# Altium footprint library MyLibrary.PcbLib: 365 footprints (part 14 of 23)
Each footprint in its own frame and in the unit in brackets; x right, y up, seen from the top. Pads: shape width x height; smd on the part's side, far side on the other; paste and mask are expansions set on the pad; w line width, h text height; cw(c..) or ccw(c..) is an arc to the next point about the centre after c.
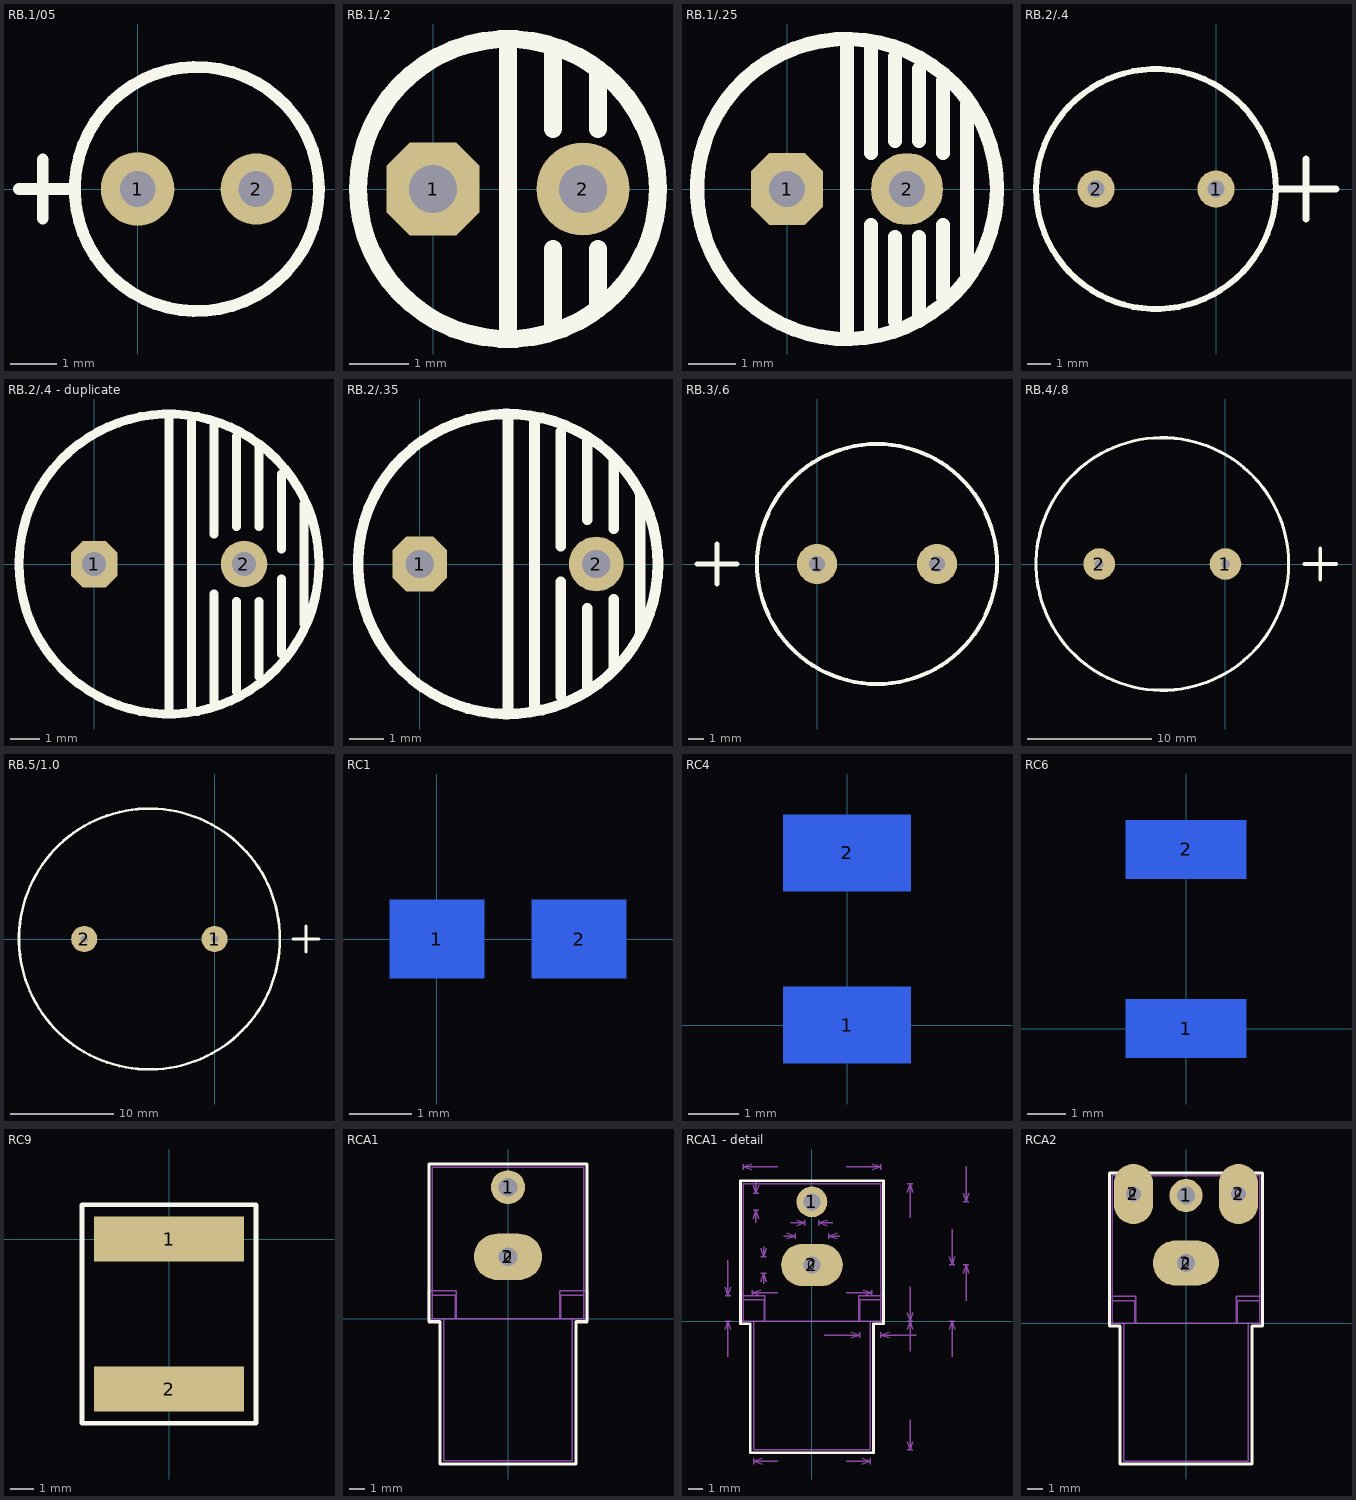
[diagram p13: the footprints below, top view; thin cyan lines are the x and y axes]

## RB.1/05 [mil]
pads (2):
  round 62 hole 30: 1(0,0)
  round 60 hole 30: 2(100,0)
Top Overlay:
  circle w10: c50,0 r102.96
  lines w10: -100,0 -55,0 ; -80,-25 -80,25

## RB.1/.2 [mil]
pads (2):
  oct 62x62 hole 32: 1(0,0)
  round 62 hole 32: 2(100,0)
Top Overlay:
  circle w12: c50,0 r100
  lines w12: 50,-100 50,100 ; 80,-90 80,-40 ; 80,40 80,90 ; 110,-80 110,-40 ; 110,40 110,80

## RB.1/.25 [mil]
pads (2):
  oct 60x60 hole 30: 1(0,0)
  round 60 hole 30: 2(100,0)
Top Overlay:
  circle w12: c50,0 r125
  lines w12: 50,-120 50,120 ; 70,-120 70,-30 ; 70,30 70,120 ; 90,-110 90,-40 ; 90,40 90,110 ; 110,-110 110,-40 ; 110,40 110,100 ; 130,-90 130,-30 ; 130,30 130,90 ; 150,-70 150,70

## RB.2/.4 [mil]
pads (2):
  round 62 hole 28: 1(0,0) 2(-200,0)
Top Overlay:
  circle w10: c-100,0 r200
  lines w12: 100,0 200,0 ; 150,-50 150,50

## RB.2/.4 - duplicate [mil]
pads (2):
  oct 62x62 hole 32: 1(0,0)
  round 62 hole 32: 2(200,0)
Top Overlay:
  circle w12: c100,0 r200
  lines w12: 100,-200 100,200 ; 130,-190 130,190 ; 160,-190 160,-40 ; 160,40 160,190 ; 190,-170 190,-50 ; 190,50 190,170 ; 220,-150 220,-50 ; 220,50 220,160 ; 250,-120 250,-20 ; 250,20 250,120 ; 280,-80 280,80

## RB.2/.35 [mil]
pads (2):
  oct 62x62 hole 32: 1(0,0)
  round 62 hole 32: 2(200,0)
Top Overlay:
  circle w12: c100,0 r170
  lines w12: 100,-170 100,170 ; 130,-160 130,160 ; 160,-150 160,-20 ; 160,20 160,150 ; 190,-140 190,-50 ; 190,50 190,140 ; 220,-120 220,-40 ; 220,40 220,120 ; 250,-80 250,80

## RB.3/.6 [mil]
pads (2):
  round 100 hole 40: 1(0,0) 2(300,0)
Top Overlay:
  circle w10: c150,0 r300
  lines w12: -300,0 -200,0 ; -250,-50 -250,50

## RB.4/.8 [mil]
pads (2):
  round 100 hole 28: 1(0,0) 2(-400,0)
Top Overlay:
  circle w10: c-200,0 r400
  lines w12: 250,0 350,0 ; 300,-50 300,50

## RB.5/1.0 [mil]
pads (2):
  round 100 hole 28: 1(0,0) 2(-500,0)
Top Overlay:
  circle w10: c-250,0 r500
  lines w12: 300,0 400,0 ; 350,-50 350,50

## RC1 [mil]
pads (2):
  rect 60x50 smd far side: 1(0,0) 2(90,0)
Bottom Overlay:
  lines w8: -50,-45 -50,45 140,45 140,-45 -50,-45

## RC4 [mil]
pads (2):
  rect 100x60 smd far side: 1(0,0) 2(0,135)
Bottom Overlay:
  lines w8: -70,-50 -70,185 70,185 70,-50 -70,-50

## RC6 [mil]
pads (2):
  rect 125x60 smd far side: 1(0,0) 2(0,185)
Bottom Overlay:
  lines w8: -82,-50 -82,235 82,235 82,-50 -82,-50

## RC9 [mil]
pads (2):
  rect 250x75 smd: 1(0,0) 2(0,-250)
Top Overlay:
  lines w8: -145,-307 -145,57 145,57 145,-307 -145,-307

## RCA1 [mm]
pads (3):
  rect 2.4x1.2 on Mech2: 0(0,4)
  round 2.2 hole 1.2: 1(0,8.5)
  oval 4.4x3 hole 1.2: 2(0,4)
Top Overlay:
  lines w0.2: -5.1,-0.2 -4.4,-0.2 -4.4,-9.4 4.4,-9.4 4.4,-0.2 5.1,-0.2 5.1,10 -5.1,10 -5.1,-0.2
Mechanical 1:
  lines w0.1: -4.9,1.5 -3.4,1.5 -3.4,0 ; -4.15,0 -4.15,-9.2 4.15,-9.2 4.15,0 ; 3.4,0 3.4,1.5 4.9,1.5 ; -4.9,0 4.9,0 4.9,9.8 -4.9,9.8 -4.9,0 ; -1.2,3.4 1.2,3.4 1.2,4.6 -1.2,4.6 -1.2,3.4 ; -0.5,7.9 -0.5,9.1 0.5,9.1 0.5,7.9 -0.5,7.9
Mechanical 2:
  lines w0.1: -5.15,0 -5.15,1.8 -3.35,1.8 -3.35,0 -5.15,0 ; 3.35,0 3.35,1.8 5.15,1.8 5.15,0 3.35,0

## RCA1 - detail [mm]
pads (3):
  rect 2.4x1.2 on Mech2: 0(0,4)
  round 2.2 hole 1.2: 1(0,8.5)
  oval 4.4x3 hole 1.2: 2(0,4)
Top Overlay:
  lines w0.2: -5.1,-0.2 -5.1,10 5.1,10 5.1,-0.2 4.4,-0.2 4.4,-9.4 -4.4,-9.4 -4.4,-0.2 -5.1,-0.2
Mechanical 1:
  lines w0.1: -6.2,-0.6 -6,0 ; -6.2,0 -5.8,0 ; -6.2,1.8 -5.8,1.8 ; -6.2,2.4 -6,1.8 ; -6,-2.54 -6,0 ; -6,4.34 -6,1.8 ; -5.8,-0.6 -6,0 ; -5.8,2.4 -6,1.8 ; -4.9,1.5 -3.4,1.5 -3.4,0 ; -4.9,10.8 -4.9,11.2 ; -4.3,10.8 -4.9,11 ; -4.3,11.2 -4.9,11 ; -4.25,1.8 -4.25,2.2 ; -4.2,7.3 -4,7.9 ; -4.2,7.9 -3.8,7.9 ; -4.2,9.1 -3.8,9.1 ; -4.2,9.7 -4,9.1 ; -4.15,-10.2 -4.15,-9.8 ; -4.15,0 -4.15,-9.2 4.15,-9.2 4.15,0 ; -4,7 -4,7.9 ; -4,10 -4,9.1 ; -3.8,7.3 -4,7.9 ; -3.8,9.7 -4,9.1 ; -3.65,1.8 -4.25,2 ; -3.65,2.2 -4.25,2 ; -3.65,2.8 -3.45,3.4 ; -3.65,3.4 -3.25,3.4 ; -3.65,4.6 -3.25,4.6 ; -3.65,5.2 -3.45,4.6 ; -3.55,-10.2 -4.15,-10 ; -3.55,-9.8 -4.15,-10 ; -3.45,2.65 -3.45,3.4 ; -3.45,5.3 -3.45,4.6 ; -3.25,2.8 -3.45,3.4 ; -3.25,5.2 -3.45,4.6 ; -2.453,-10 -4.15,-10 ; -2.453,2 -4.25,2 ; -2.453,11 -4.9,11 ; -2,6.05 -1.2,6.05 ; -1.8,5.85 -1.2,6.05 ; -1.8,6.25 -1.2,6.05 ; -1.5,7 -0.5,7 ; -1.2,5.85 -1.2,6.25 ; -1.1,6.8 -0.5,7 ; -1.1,7.2 -0.5,7 ; -0.5,6.8 -0.5,7.2 ; 0.5,6.8 0.5,7.2 ; 0.86,-1 3.4,-1 ; 1.1,6.8 0.5,7 ; 1.1,7.2 0.5,7 ; 1.2,5.85 1.2,6.25 ; 1.5,7 0.5,7 ; 1.8,5.85 1.2,6.05 ; 1.8,6.25 1.2,6.05 ; 2,6.05 1.2,6.05 ; 2.453,-10 4.15,-10 ; 2.453,2 4.25,2 ; 2.453,11 4.9,11 ; 2.8,-1.2 3.4,-1 ; 2.8,-0.8 3.4,-1 ; 3.4,-1.2 3.4,-0.8 ; 3.4,0 3.4,1.5 4.9,1.5 ; 3.55,-10.2 4.15,-10 ; 3.55,-9.8 4.15,-10 ; 3.65,1.8 4.25,2 ; 3.65,2.2 4.25,2 ; 4.15,-10.2 4.15,-9.8 ; 4.25,1.8 4.25,2.2 ; 4.3,10.8 4.9,11 ; 4.3,11.2 4.9,11 ; 4.9,-1.2 4.9,-0.8 ; 4.9,10.8 4.9,11.2 ; 5.5,-1.2 4.9,-1 ; 5.5,-0.8 4.9,-1 ; 6.8,-9.2 7.2,-9.2 ; 6.8,-8.6 7,-9.2 ; 6.8,-0.6 7,0 ; 6.8,0.6 7,0 ; 6.8,9.2 7,9.8 ; 6.8,9.8 7.2,9.8 ; 7,-7.053 7,-9.2 ; 7,-2.147 7,0 ; 7,2.447 7,0 ; 7,7.353 7,9.8 ; 7.2,-8.6 7,-9.2 ; 7.2,-0.6 7,0 ; 7.2,0.6 7,0 ; 7.2,9.2 7,9.8 ; 7.44,-1 4.9,-1 ; 9.8,-0.6 10,0 ; 9.8,0 10.2,0 ; 9.8,4 10.2,4 ; 9.8,4.6 10,4 ; 10,-2.54 10,0 ; 10,6.54 10,4 ; 10.2,-0.6 10,0 ; 10.2,4.6 10,4 ; 10.8,3.4 11,4 ; 10.8,4 11.2,4 ; 10.8,8.5 11.2,8.5 ; 10.8,9.1 11,8.5 ; 11,1.46 11,4 ; 11,11.04 11,8.5 ; 11.2,3.4 11,4 ; 11.2,9.1 11,8.5 ; -4.9,0 -4.9,9.8 4.9,9.8 4.9,0 -4.9,0 ; -1.2,3.4 -1.2,4.6 1.2,4.6 1.2,3.4 -1.2,3.4 ; -0.5,7.9 0.5,7.9 0.5,9.1 -0.5,9.1 -0.5,7.9 ; 6.8,0 7.2,0 6.8,0
  text "1.2 (mm)" at -3.75,10.25 h0.6
  text "1.2 (mm)" at -3.8,2.3 h0.6
  text "1 (mm)" at 1.65,6.8 h0.6
  text "2.4 (mm)" at 2.2,5.75 h0.6
  text "8.3 (mm)" at -2.199,-10.4 h0.6
  text "9.2 (mm)" at 7.4,-6.799 h0.6
  text "9.8 (mm)" at 7.4,2.701 h0.6
  text "8.5 (mm)" at -2.199,1.6 h0.6
  text "9.8 (mm)" at -2.199,10.6 h0.6
  text "1.8 (mm)" at -6.75,-1.5 h0.6
  text "1.5 (mm)" at -0.25,-2.05 h0.6
  text "4 (mm)" at 10.25,0.3 h0.6
  text "4.5 (mm)" at 11.35,4.15 h0.6
Mechanical 2:
  lines w0.1: -5.15,0 -3.35,0 -3.35,1.8 -5.15,1.8 -5.15,0 ; 3.35,0 5.15,0 5.15,1.8 3.35,1.8 3.35,0

## RCA2 [mm]
pads (7):
  rect 1x2.4 on Mech2: 0(-3.5,8.6) 0(3.5,8.6)
  rect 2.4x1.2 on Mech2: 0(0,4)
  round 2.2 hole 1.2: 1(0,8.5)
  oval 2.6x4 hole 1: 2(-3.5,8.6) 2(3.5,8.6)
  oval 4.4x3 hole 1.2: 2(0,4)
Top Overlay:
  lines w0.2: -5.1,-0.2 -5.1,10 5.1,10 5.1,-0.2 4.4,-0.2 4.4,-9.4 -4.4,-9.4 -4.4,-0.2 -5.1,-0.2
Mechanical 1:
  lines w0.1: -4.9,1.5 -3.4,1.5 -3.4,0 ; -4.15,0 -4.15,-9.2 4.15,-9.2 4.15,0 ; -4,9.8 -4,7.4 -3,7.4 -3,9.8 ; 3,9.8 3,7.4 4,7.4 4,9.8 ; 3.4,0 3.4,1.5 4.9,1.5 ; -4.9,0 -4.9,9.8 4.9,9.8 4.9,0 -4.9,0 ; -1.2,3.4 -1.2,4.6 1.2,4.6 1.2,3.4 -1.2,3.4 ; -0.5,7.9 0.5,7.9 0.5,9.1 -0.5,9.1 -0.5,7.9
Mechanical 2:
  lines w0.1: -5.15,0 -3.35,0 -3.35,1.8 -5.15,1.8 -5.15,0 ; 3.35,0 5.15,0 5.15,1.8 3.35,1.8 3.35,0